# Altium schematic symbol library Microchip_MCP1700T_3302E_TT.SchLib: 1 symbol
Pins are listed as number, name and electrical type; pins without a type are passive.

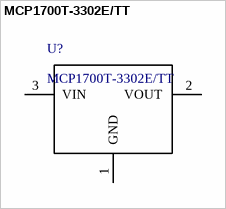
[diagram p0: symbol MCP1700T-3302E/TT]

## MCP1700T-3302E/TT
designator U?
Low Quiescent Current LDO, 3-Pin SOT-23, Extended Temperature, Tape and Reel; Code_IPC: SOT23-3; PackageVersion: revBB, Aug-2009; PackageReference: SOT-23-TT3; PackageDescription: 3-Lead Plastic Small Outline Transistor (TT) [SOT-23]; DatasheetVersion: revB, Feb-2007; PartNumber: MCP1700T-3302E/TT
footprint SOT-23-TT3_M
footprint SOT-23-TT3_N
footprint SOT-23-TT3_L
pins: 1 GND (power), 2 VOUT (power), 3 VIN (power)